# Altium footprint library HydrogreenPcbLibrary.PcbLib: 34 footprints (part 2 of 3)
Each footprint in its own frame and in the unit in brackets; x right, y up, seen from the top. Pads: shape width x height; smd on the part's side, far side on the other; paste and mask are expansions set on the pad; w line width, h text height; cw(c..) or ccw(c..) is an arc to the next point about the centre after c.
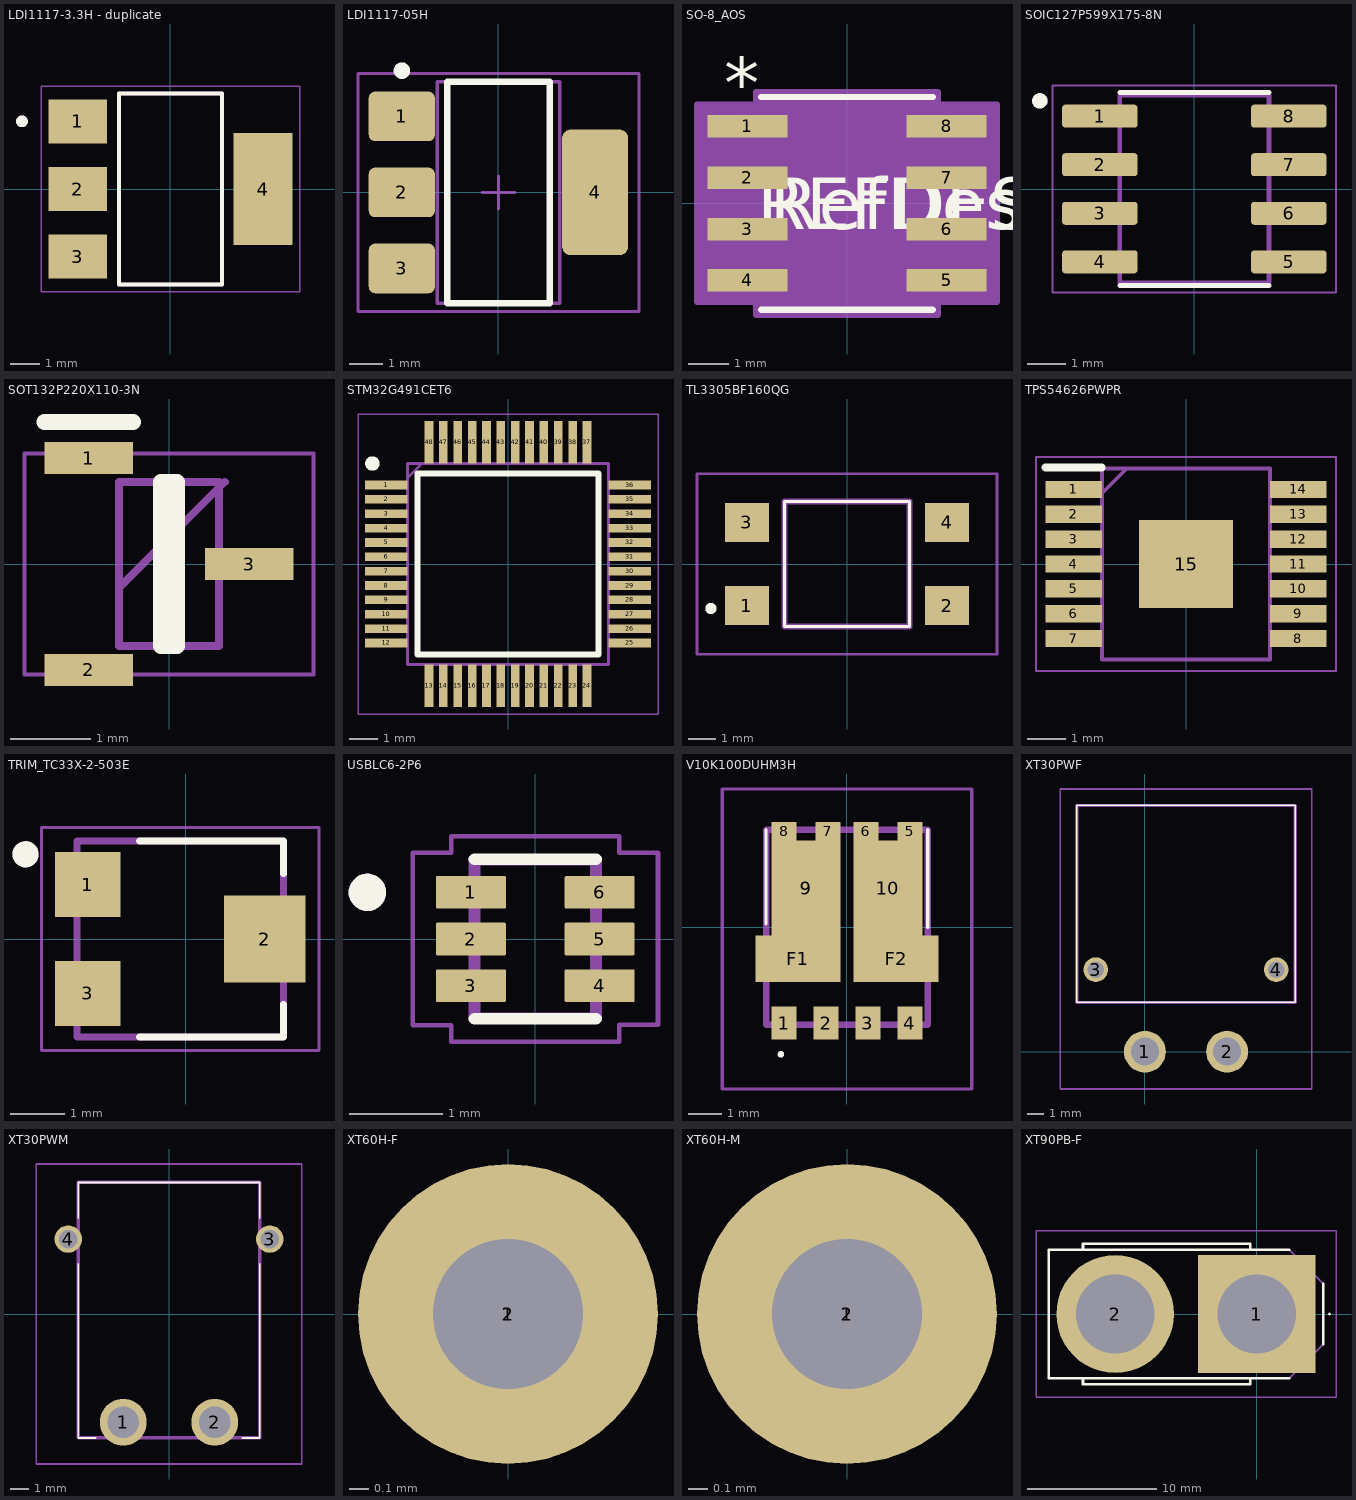
[diagram p1: the footprints below, top view; thin cyan lines are the x and y axes]

## LDI1117-3.3H - duplicate [mm]
height 1.65
pads (4):
  rect 2x1.5 smd: 1(-3.15,2.3) 2(-3.15,0) 3(-3.15,-2.3)
  rect 2x3.8 smd: 4(3.15,0)
Top Overlay:
  circle w0.2: c-5.05,2.3 r0.1
  lines w0.127: -1.75,-3.25 -1.75,3.25 1.75,3.25 1.75,-3.25 -1.75,-3.25
Top 3D Body:
  circle w0.2: c-5.05,2.3 r0.1
  lines w0.127: -1.75,-3.25 -1.75,3.25 1.75,3.25 1.75,-3.25 -1.75,-3.25
Top Courtyard:
  lines w0.05: -4.4,-3.5 -4.4,3.5 4.4,3.5 4.4,-3.5 -4.4,-3.5
3D body "step_temp.STEP": height 7.05, standoff 0.55, extent -3.567,1.733 3.433,3.383

## LDI1117-05H [mm] "SOT223, 4-Leads"
height 1.65
pads (4):
  rrect25% 2x1.5 smd: 1(-2.925,2.3) 2(-2.925,0) 3(-2.925,-2.3)
  rrect25% 2x3.8 smd: 4(2.925,0)
Top Overlay:
  circle w0.25: c-2.921,3.683 r0.125
  lines w0.2: -1.55,-3.35 -1.55,3.35 1.55,3.35 1.55,-3.35 -1.55,-3.35
Mechanical 12:
  lines w0.1: -1.85,-3.35 -1.85,3.35 1.85,3.35 1.85,-3.35 -1.85,-3.35
Top Courtyard:
  lines w0.1: -0.5,0 0.5,0 ; 0,-0.5 0,0.5 ; -4.25,-3.6 -4.25,3.6 4.25,3.6 4.25,-3.6 -4.25,-3.6
3D body "p205_SOT-223.stp": height 1.64, standoff -0.01, extent -3.44,-3.263 3.56,3.237

## SO-8_AOS [mil]
pads (8):
  rect 78x22 smd paste+0 mask+0: 1(-97,75) 2(-97,25) 3(-97,-25) 4(-97,-75) 5(97,-75) 6(97,-25) 7(97,25) 8(97,75)
Top Overlay:
  lines w6: -83.5,-103.5 83.5,-103.5 ; -83.5,103.5 83.5,103.5
  text "RefDes" at -75,-25 h50
  text "*" at -119.5,92 h50
  text "REFDES" at -87.5,-25 h50
Top 3D Body:
  lines w0: -12,98.5 ccw(c0,98.5) 12,98.5
  lines w1: -122,-85 -78.5,-85 -78.5,-65 -122,-65 -122,-85 ; -122,-35 -78.5,-35 -78.5,-15 -122,-15 -122,-35 ; -122,15 -78.5,15 -78.5,35 -122,35 -122,15 ; -122,65 -78.5,65 -78.5,85 -122,85 -122,65 ; -78.5,-98.5 -78.5,98.5 78.5,98.5 78.5,-98.5 -78.5,-98.5 ; 78.5,-85 122,-85 122,-65 78.5,-65 78.5,-85 ; 78.5,-35 122,-35 122,-15 78.5,-15 78.5,-35 ; 78.5,15 122,15 122,35 78.5,35 78.5,15 ; 78.5,65 122,65 122,85 78.5,85 78.5,65
  text "RefDes2" at -87.5,-25 h50
  text "*" at -76,45.5 h50
Top Courtyard:
  region: -88.5,-96 -146,-96 -146,96 -88.5,96 -88.5,108.5 88.5,108.5 88.5,96 146,96 146,-96 88.5,-96 88.5,-108.5 -88.5,-108.5
  lines w6: -146,-96 -88.5,-96 -88.5,-108.5 88.5,-108.5 88.5,-96 146,-96 146,96 88.5,96 88.5,108.5 -88.5,108.5 -88.5,96 -146,96 -146,-96
3D body "SO-8_AOS.step": height 69.09, standoff 0, extent -122.01,-98.5 122.01,98.5

## SOIC127P599X175-8N [mm]
pads (8):
  rrect25% 1.97x0.6 smd: 1(-2.47,1.905) 2(-2.47,0.635) 3(-2.47,-0.635) 4(-2.47,-1.905) 5(2.47,-1.905) 6(2.47,-0.635) 7(2.47,0.635) 8(2.47,1.905)
Top Overlay:
  circle w0.2: c-4.04,2.305 r0.1
  lines w0.127: -1.95,-2.525 1.95,-2.525 ; -1.95,2.525 1.95,2.525
Top 3D Body:
  circle w0.2: c-4.04,2.305 r0.1
  lines w0.127: -1.95,-2.452 -1.95,2.452 1.95,2.452 1.95,-2.452 -1.95,-2.452
Top Courtyard:
  lines w0.05: -3.705,-2.702 -3.705,2.702 3.705,2.702 3.705,-2.702 -3.705,-2.702
3D body "step_temp.STEP": height 1.75, standoff 0, extent -3,-2.45 3,2.45

## SOT132P220X110-3N [mm]
pads (3):
  rect 1.1x0.4 smd: 1(-1,1.32) 2(-1,-1.32) 3(1,0)
Top Overlay:
  lines w0.2: -1.55,1.77 -0.45,1.77 ; -0.1,-1.025 -0.1,1.025 0.1,1.025 0.1,-1.025 -0.1,-1.025
Top 3D Body:
  lines w0.1: -0.625,-0.295 0.695,1.025 ; -0.625,-1.025 -0.625,1.025 0.625,1.025 0.625,-1.025 -0.625,-1.025
Top Courtyard:
  lines w0.05: -1.8,-1.375 -1.8,1.375 1.8,1.375 1.8,-1.375 -1.8,-1.375
3D body "SP0502BAJTG.stp": height 1.1, standoff 0, extent -1.1,-1.432 1.1,1.432

## STM32G491CET6 [mm]
pads (48):
  rect 1.475x0.3 smd: 1(-4.238,2.75) 2(-4.238,2.25) 3(-4.238,1.75) 4(-4.238,1.25) 5(-4.238,0.75) 6(-4.238,0.25) 7(-4.238,-0.25) 8(-4.238,-0.75) 9(-4.238,-1.25) 10(-4.238,-1.75) 11(-4.238,-2.25) 12(-4.238,-2.75) 25(4.238,-2.75) 26(4.238,-2.25) 27(4.238,-1.75) 28(4.238,-1.25) 29(4.238,-0.75) 30(4.238,-0.25) 31(4.238,0.25) 32(4.238,0.75) 33(4.238,1.25) 34(4.238,1.75) 35(4.238,2.25) 36(4.238,2.75)
  rect 0.3x1.475 smd: 13(-2.75,-4.238) 14(-2.25,-4.238) 15(-1.75,-4.238) 16(-1.25,-4.238) 17(-0.75,-4.238) 18(-0.25,-4.238) 19(0.25,-4.238) 20(0.75,-4.238) 21(1.25,-4.238) 22(1.75,-4.238) 23(2.25,-4.238) 24(2.75,-4.238) 37(2.75,4.238) 38(2.25,4.238) 39(1.75,4.238) 40(1.25,4.238) 41(0.75,4.238) 42(0.25,4.238) 43(-0.25,4.238) 44(-0.75,4.238) 45(-1.25,4.238) 46(-1.75,4.238) 47(-2.25,4.238) 48(-2.75,4.238)
Top Overlay:
  circle w0.25: c-4.725,3.5 r0.125
  lines w0.2: -3.15,-3.15 -3.15,3.15 3.15,3.15 3.15,-3.15 -3.15,-3.15
Top Courtyard:
  lines w0.1: -3.5,3 -3,3.5 ; -3.5,-3.5 -3.5,3.5 3.5,3.5 3.5,-3.5 -3.5,-3.5
Bottom Assembly (Mech20):
  lines w0.05: -5.225,-5.225 -5.225,5.225 5.225,5.225 5.225,-5.225 -5.225,-5.225
3D body "STM32G491CET6.stp": height 1.6, standoff 0, extent -4.497,-4.497 4.497,4.497

## TL3305BF160QG [mm]
pads (4):
  rect 1.6x1.4 smd: 1(-3.6,-1.5) 2(3.6,-1.5) 3(-3.6,1.5) 4(3.6,1.5)
Top Overlay:
  lines w0.1: -2.25,-2.25 -2.25,2.25 2.25,2.25 2.25,-2.25 -2.25,-2.25
  lines w0.2: -5,-1.6 ccw(c-4.9,-1.6) -4.8,-1.6 ccw(c-4.9,-1.6) -5,-1.6
Top 3D Body:
  lines w0.2: -2.25,-2.25 -2.25,2.25 2.25,2.25 2.25,-2.25 -2.25,-2.25
Top Courtyard:
  lines w0.1: -5.4,-3.25 -5.4,3.25 5.4,3.25 5.4,-3.25 -5.4,-3.25
3D body "TL3305BF100QG.stp": height 4.9, standoff -0.1, extent -3.75,-2.25 3.75,2.25

## TPS54626PWPR [mm]
pads (15):
  rect 1.475x0.45 smd: 1(-2.938,1.95) 2(-2.938,1.3) 3(-2.938,0.65) 4(-2.938,0) 5(-2.938,-0.65) 6(-2.938,-1.3) 7(-2.938,-1.95) 8(2.938,-1.95) 9(2.938,-1.3) 10(2.938,-0.65) 11(2.938,0) 12(2.938,0.65) 13(2.938,1.3) 14(2.938,1.95)
  rect 2.46x2.31 smd: 15(0,0)
Top Overlay:
  lines w0.2: -3.675,2.525 -2.2,2.525
Top Courtyard:
  lines w0.1: -2.2,1.85 -1.55,2.5 ; -2.2,-2.5 -2.2,2.5 2.2,2.5 2.2,-2.5 -2.2,-2.5
Bottom Assembly (Mech20):
  lines w0.05: -3.925,-2.8 -3.925,2.8 3.925,2.8 3.925,-2.8 -3.925,-2.8

## TRIM_TC33X-2-503E [mm]
pads (3):
  rect 1.2x1.2 smd: 1(-1.8,1) 3(-1.8,-1)
  rect 1.5x1.6 smd: 2(1.45,0)
Top Overlay:
  circle w0.24: c-2.946,1.558 r0.12
  lines w0.127: -0.85,-1.8 1.8,-1.8 1.8,-1.2 ; -0.85,1.8 1.8,1.8 1.8,1.2
Top 3D Body:
  circle w0.24: c-2.946,1.558 r0.12
  lines w0.127: -2,-1.8 -2,1.8 1.8,1.8 1.8,-1.8 -2,-1.8
Top Courtyard:
  lines w0.05: -2.65,-2.05 -2.65,2.05 2.45,2.05 2.45,-2.05 -2.65,-2.05
3D body "step_temp.STEP": height 1.1, standoff -0.1, extent -1.9,-1.5 1.9,1.5

## USBLC6-2P6 [mm]
pads (6):
  rrect8% 0.75x0.35 smd: 1(-0.69,0.5) 2(-0.69,0) 3(-0.69,-0.5) 4(0.69,-0.5) 5(0.69,0) 6(0.69,0.5)
Top Overlay:
  circle w0.2: c-1.8,0.5 r0.1
  lines w0.127: -0.65,-0.855 0.65,-0.855 ; -0.65,0.855 0.65,0.855
Top 3D Body:
  circle w0.2: c-1.8,0.5 r0.1
  lines w0.127: -0.65,-0.85 -0.65,0.85 0.65,0.85 0.65,-0.85 -0.65,-0.85
Top Courtyard:
  lines w0.05: -1.315,-0.925 -1.315,0.925 -0.9,0.925 -0.9,1.1 0.9,1.1 0.9,0.925 1.315,0.925 1.315,-0.92 0.9,-0.92 0.9,-1.1 -0.9,-1.1 -0.9,-0.925 -1.315,-0.925
3D body "step_temp.STEP": height 0.6, standoff 0, extent -0.8,-0.8 0.8,0.8

## V10K100DUHM3H [mm]
pads (12):
  rect 0.75x1 smd: 1(-1.905,-2.905) 2(-0.635,-2.905) 3(0.635,-2.905) 4(1.905,-2.905)
  rect 0.75x0.56 smd: 5(1.905,2.905) 6(0.575,2.905) 7(-0.575,2.905) 8(-1.905,2.905)
  rect 2.08x2.88 smd: 9(-1.24,1.185) 10(1.24,1.185)
  rect 2.575x1.4 smd: F1(-1.488,-0.955) F2(1.488,-0.955)
Top Overlay:
  lines w0.1: -2.45,0.1 -2.45,2.95 ; 2.45,0 2.45,2.95 ; -2,-3.9 cw(c-2,-3.85) -2,-3.8 cw(c-2,-3.85) -2,-3.9
Top Courtyard:
  lines w0.2: -2.45,-2.95 2.45,-2.95 2.45,2.95 -2.45,2.95 -2.45,-2.95
Bottom Assembly (Mech20):
  lines w0.1: -3.775,-4.9 3.776,-4.9 3.776,4.185 -3.775,4.185 -3.775,-4.9
3D body "V10K100DUHM3_H.stp": height 1.19, standoff 0, extent -2.635,-3.33 2.635,3.129

## XT30PWF [mm]
pads (4):
  round 2.55 hole 1.7: 1(0,0) 2(5,0)
  round 1.5 hole 1: 3(-3,5) 4(8,5)
Top Overlay:
  lines w0.1: -4.15,3 9.15,3 9.15,15 -4.15,15 -4.15,3
Top Courtyard:
  lines w0.2: -4.15,3 9.15,3 9.15,15 -4.15,15 -4.15,3
Bottom Assembly (Mech20):
  lines w0.1: -5.15,-2.275 10.15,-2.275 10.15,16 -5.15,16 -5.15,-2.275
3D body "XT30PW-F.stp": height 5, standoff -2.18, extent -4.135,-0.945 9.165,13.95

## XT30PWM [mm]
pads (4):
  round 2.55 hole 1.7: 1(-2.5,-5.912) 2(2.5,-5.912)
  round 1.5 hole 1: 3(5.5,4.088) 4(-5.5,4.088)
Top Overlay:
  lines w0.1: -4.95,2.737 -4.95,-6.762 -4,-6.762 ; -4.95,5.237 -4.95,7.187 4.95,7.187 4.95,5.237 ; 4,-6.762 4.95,-6.762 4.95,2.737
Top Courtyard:
  lines w0.2: -4.95,-6.762 4.95,-6.762 4.95,7.187 -4.95,7.187 -4.95,-6.762
Bottom Assembly (Mech20):
  lines w0.1: -7.25,-8.188 7.25,-8.188 7.25,8.188 -7.25,8.188 -7.25,-8.188
3D body "XT30PW-M.stp": height 5.1, standoff -2.4, extent -6.65,-6.855 6.65,7.095

## XT60H-F [mil]
pads (2):
  round 60 hole 30: 1(0,0) 2(0,0)
3D body "XT60H-F.stp": height 181.1, standoff -181.1, extent -322.83,-621.95 322.83,338.74

## XT60H-M [mil]
pads (2):
  round 60 hole 30: 1(0,0) 2(0,0)
3D body "XT60H-M.stp": height 500, standoff -307.09, extent -159.45,-305.12 159.45,305.12

## XT90PB-F [mm]
pads (2):
  rect 9.15x9.15 hole 6.1: 1(0,0)
  round 9.15 hole 6.1: 2(-11,0)
Top Overlay:
  lines w0.1: 5.6,0 ccw(c5.65,0) 5.7,0 ccw(c5.65,0) 5.6,0
  lines w0.2: -13.5,-5 -13.5,-5.45 -0.5,-5.45 -0.5,-5 ; -13.5,5 -13.5,5.45 -0.5,5.45 -0.5,5 ; 2.5,-5 -16.15,-5 -16.15,5 2.5,5 ; 5.15,-2.35 5.15,2.35
Top Courtyard:
  lines w0.1: -13.5,-5 -13.5,-5.45 -0.5,-5.45 -0.5,-5 ; -13.5,5 -13.5,5.45 -0.5,5.45 -0.5,5 ; -16.15,-5 -5.5,-5 2.5,-5 5.15,-2.35 5.15,2.35 2.5,5 -16.15,5 -16.15,-5
Bottom Assembly (Mech20):
  lines w0.1: -17.15,-6.45 -17.15,6.45 6.15,6.45 6.15,-6.45 -17.15,-6.45
3D body "XT90PB-F.stp": height 19.7, standoff -2.8, extent -16.161,-5.366 5.239,5.334